# Altium schematic symbol library 5055750771.SchLib: 1 symbol
Pins are listed as number, name and electrical type; pins without a type are passive.

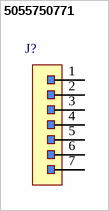
[diagram p0: symbol 5055750771]

## 5055750771
designator J?
=Description; Supplier 1: Mouser; Supplier Part Number 1: 538-505575-0771
pins: 1, 2, 3, 4, 5, 6, 7